# Altium footprint library Inductor_SMD.PcbLib: 587 footprints (part 22 of 37)
Each footprint in its own frame and in the unit in brackets; x right, y up, seen from the top. Pads: shape width x height; smd on the part's side, far side on the other; paste and mask are expansions set on the pad; w line width, h text height; cw(c..) or ccw(c..) is an arc to the next point about the centre after c.
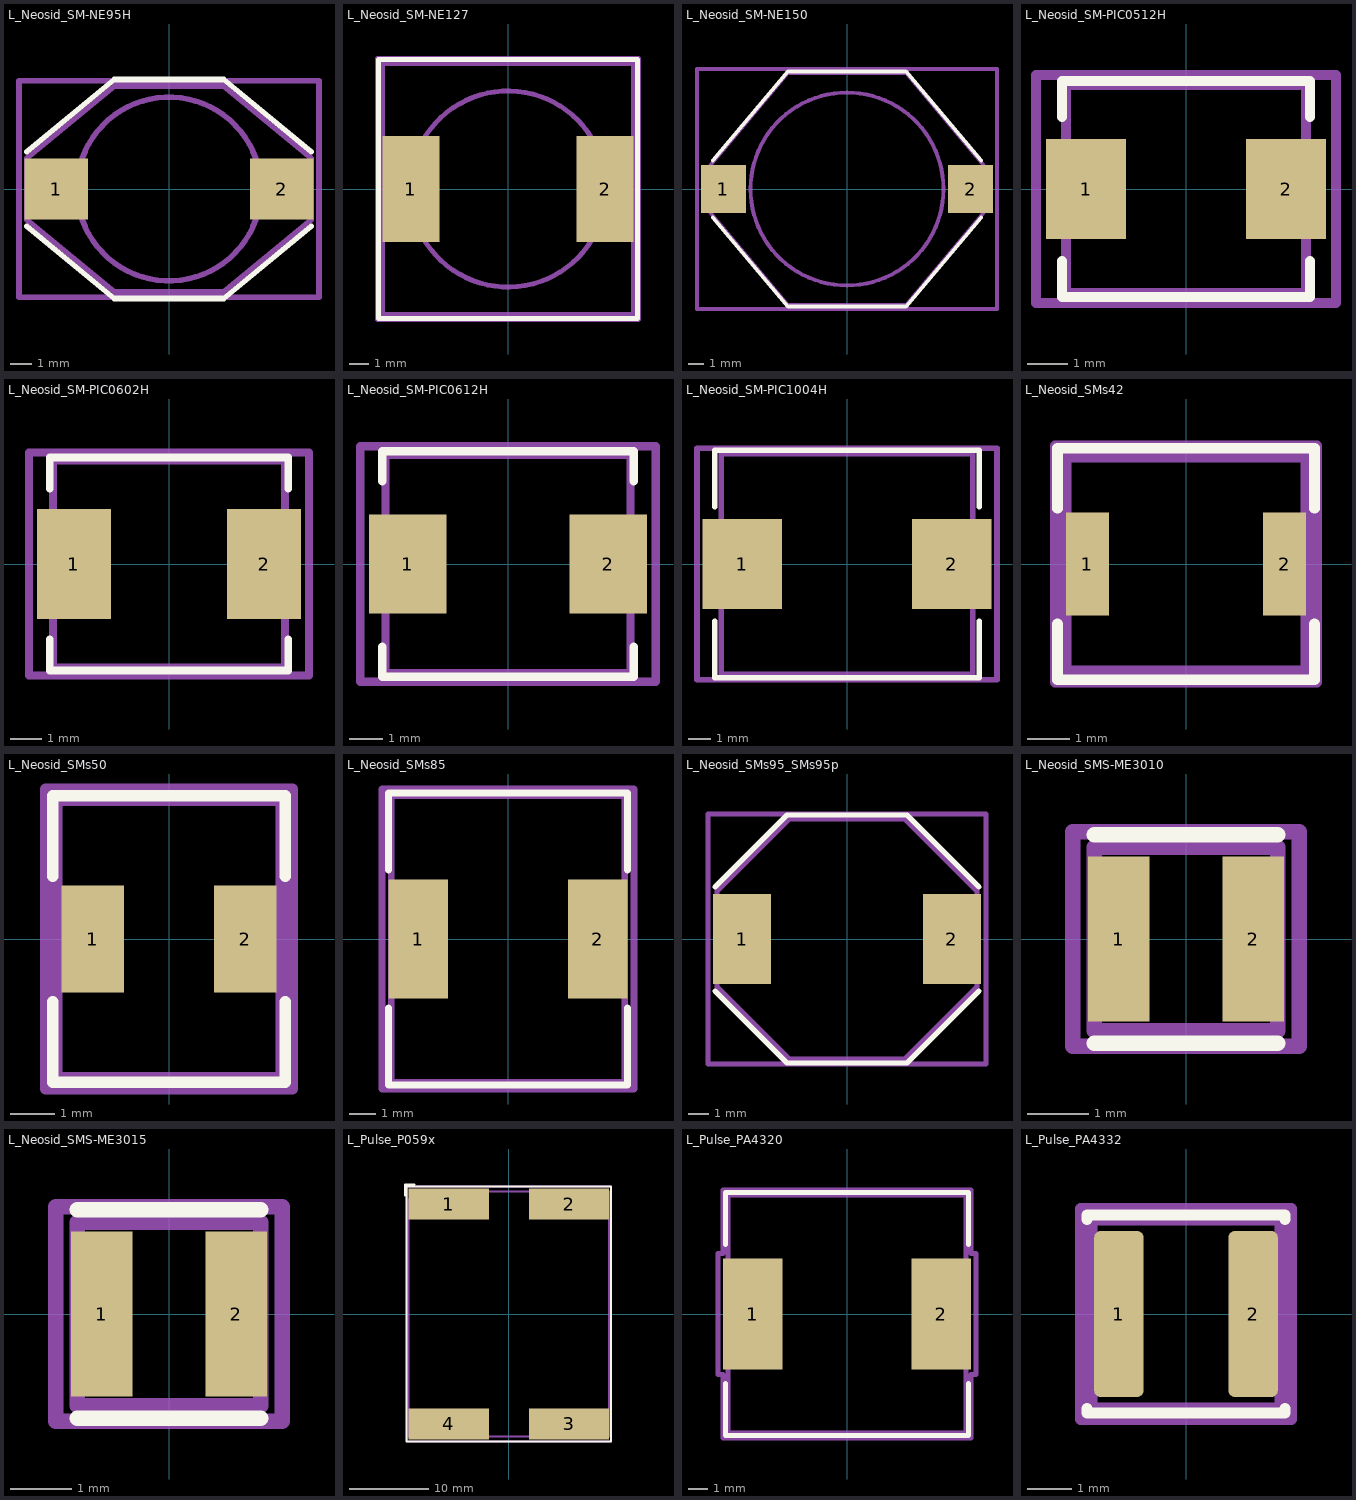
[diagram p21: the footprints below, top view; thin cyan lines are the x and y axes]

## L_Neosid_SM-NE95H [mm] "L_Neosid_SM-NE95H"
pads (2):
  rect 2.9x2.8 smd: 1(-5.15,0) 2(5.15,0)
F.SilkS:
  lines w0.254: -6.5,-1.7 -2.5,-5 2.5,-5 6.5,-1.7 ; -6.5,1.7 -2.5,5 2.5,5 6.5,1.7
Top Assembly:
  circle w0.254: c0,0 r4.2
  lines w0.254: -6.5,-1.4 -2.5,-4.7 2.5,-4.7 6.5,-1.4 6.5,1.4 2.5,4.7 -2.5,4.7 -6.5,1.4 -6.5,-1.4
  text "'.Designator'" at -4.047,-0.84 h1
Top Courtyard:
  lines w0.254: -6.85,-4.95 6.85,-4.95 6.85,4.95 -6.85,4.95 -6.85,-4.95
Top Designator:
  text ".Designator" at -7.618,-0.508 h1.52

## L_Neosid_SM-NE127 [mm] "L_Neosid_SM-NE127"
pads (2):
  rect 2.9x5.4 smd: 1(-4.95,0) 2(4.95,0)
F.SilkS:
  lines w0.254: -6.6,-6.6 6.6,-6.6 6.6,6.6 -6.6,6.6 -6.6,-6.6
Top Assembly:
  circle w0.254: c0,0 r5
  lines w0.254: -6.4,-6.4 6.4,-6.4 6.4,6.4 -6.4,6.4 -6.4,-6.4
  text "'.Designator'" at -4.047,-0.84 h1
Top Courtyard:
  lines w0.254: -6.65,-6.65 6.65,-6.65 6.65,6.65 -6.65,6.65 -6.65,-6.65
Top Designator:
  text ".Designator" at -7.618,-0.508 h1.52

## L_Neosid_SM-NE150 [mm] "L_Neosid_SM-NE150"
pads (2):
  rect 3x3.2 smd: 1(-8.2,0) 2(8.2,0)
F.SilkS:
  lines w0.254: -8.9,-1.9 -3.9,-7.8 3.9,-7.8 8.9,-1.9 ; -8.9,1.9 -3.9,7.8 3.9,7.8 8.9,1.9
Top Assembly:
  circle w0.254: c0,0 r6.4
  lines w0.254: -9.3,-1.3 -3.9,-7.7 3.9,-7.7 9.3,-1.3 9.3,1.3 3.9,7.7 -3.9,7.7 -9.3,1.3 -9.3,-1.3
  text "'.Designator'" at -4.047,-0.84 h1
Top Courtyard:
  lines w0.254: -9.95,-7.95 9.95,-7.95 9.95,7.95 -9.95,7.95 -9.95,-7.95
Top Designator:
  text ".Designator" at -7.618,-0.508 h1.52

## L_Neosid_SM-PIC0512H [mm] "L_Neosid_SM-PIC0512H"
pads (2):
  rect 2x2.5 smd: 1(-2.5,0) 2(2.5,0)
F.SilkS:
  lines w0.254: -3.1,-1.8 -3.1,-2.7 3.1,-2.7 3.1,-1.8 ; -3.1,1.8 -3.1,2.7 3.1,2.7 3.1,1.8
Top Assembly:
  lines w0.254: -3,-2.6 3,-2.6 3,2.6 -3,2.6 -3,-2.6
  text "'.Designator'" at -4.047,-0.84 h1
Top Courtyard:
  lines w0.254: -3.75,-2.85 3.75,-2.85 3.75,2.85 -3.75,2.85 -3.75,-2.85
Top Designator:
  text ".Designator" at -7.768,-0.508 h1.52

## L_Neosid_SM-PIC0602H [mm] "L_Neosid_SM-PIC0602H"
pads (2):
  rect 2.35x3.5 smd: 1(-3.03,0) 2(3.03,0)
F.SilkS:
  lines w0.254: -3.8,-3.4 3.8,-3.4 ; -3.8,-3.3 -3.8,-2.4 ; -3.8,2.4 -3.8,3.3 ; -3.8,3.4 3.8,3.4 ; 3.8,-3.3 3.8,-2.4 ; 3.8,2.4 3.8,3.3
Top Assembly:
  lines w0.254: -3.7,-3.3 3.7,-3.3 3.7,3.3 -3.7,3.3 -3.7,-3.3
  text "'.Designator'" at -4.047,-0.84 h1
Top Courtyard:
  lines w0.254: -4.46,-3.55 4.46,-3.55 4.46,3.55 -4.46,3.55 -4.46,-3.55
Top Designator:
  text ".Designator" at -7.618,-0.508 h1.52

## L_Neosid_SM-PIC0612H [mm] "L_Neosid_SM-PIC0612H"
pads (2):
  rect 2.35x3 smd: 1(-3.03,0) 2(3.03,0)
F.SilkS:
  lines w0.254: -3.8,-2.5 -3.8,-3.4 3.8,-3.4 3.8,-2.5 ; -3.8,2.5 -3.8,3.4 3.8,3.4 3.8,2.5
Top Assembly:
  lines w0.254: -3.7,-3.3 -3.7,3.3 3.7,3.3 3.7,-3.3 -3.7,-3.3
  text "'.Designator'" at -4.047,-0.84 h1
Top Courtyard:
  lines w0.254: -4.46,-3.55 -4.46,3.55 4.46,3.55 4.46,-3.55 -4.46,-3.55
Top Designator:
  text ".Designator" at -7.618,-0.508 h1.52

## L_Neosid_SM-PIC1004H [mm] "L_Neosid_SM-PIC1004H"
pads (2):
  rect 3.6x4.1 smd: 1(-4.75,0) 2(4.75,0)
F.SilkS:
  lines w0.254: -6,-2.6 -6,-5.15 6,-5.15 6,-2.6 ; -6,2.6 -6,5.15 6,5.15 6,2.6
Top Assembly:
  lines w0.254: -5.7,-5 -5.7,5 5.7,5 5.7,-5 -5.7,-5
  text "'.Designator'" at -4.047,-0.84 h1
Top Courtyard:
  lines w0.254: -6.8,-5.25 -6.8,5.25 6.8,5.25 6.8,-5.25 -6.8,-5.25
Top Designator:
  text ".Designator" at -7.618,-0.508 h1.52

## L_Neosid_SMs42 [mm] "L_Neosid_SMs42"
pads (2):
  rect 1x2.4 smd: 1(-2.3,0) 2(2.3,0)
F.SilkS:
  lines w0.254: -3,-1.4 -3,-2.7 3,-2.7 3,-1.4 ; -3,1.3 -3,2.7 3,2.7 3,1.3
Top Assembly:
  lines w0.254: -2.8,-2.5 -2.8,2.5 2.8,2.5 2.8,-2.5 -2.8,-2.5
  text "'.Designator'" at -4.047,-0.84 h1
Top Courtyard:
  lines w0.254: -3.05,-2.75 -3.05,2.75 3.05,2.75 3.05,-2.75 -3.05,-2.75
Top Designator:
  text ".Designator" at -7.768,-0.508 h1.52

## L_Neosid_SMs50 [mm] "L_Neosid_SMs50"
pads (2):
  rect 1.4x2.4 smd: 1(-1.7,0) 2(1.7,0)
F.SilkS:
  lines w0.254: -2.6,-1.4 -2.6,-3.2 2.6,-3.2 2.6,-1.4 ; -2.6,1.4 -2.6,3.2 2.6,3.2 2.6,1.4
Top Assembly:
  lines w0.254: -2.5,-3.1 -2.5,3.1 2.5,3.1 2.5,-3.1 -2.5,-3.1
  text "'.Designator'" at -4.047,-0.84 h1
Top Courtyard:
  lines w0.254: -2.75,-3.35 -2.75,3.35 2.75,3.35 2.75,-3.35 -2.75,-3.35
Top Designator:
  text ".Designator" at -7.768,-0.508 h1.52

## L_Neosid_SMs85 [mm] "L_Neosid_SMs85"
pads (2):
  rect 2.25x4.5 smd: 1(-3.38,0) 2(3.38,0)
F.SilkS:
  lines w0.254: -4.5,-2.6 -4.5,-5.5 4.5,-5.5 4.5,-2.6 ; -4.5,2.6 -4.5,5.5 4.5,5.5 4.5,2.6
Top Assembly:
  lines w0.254: -4.4,-5.4 -4.4,5.4 4.4,5.4 4.4,-5.4 -4.4,-5.4
  text "'.Designator'" at -4.047,-0.84 h1
Top Courtyard:
  lines w0.254: -4.75,-5.65 -4.75,5.65 4.75,5.65 4.75,-5.65 -4.75,-5.65
Top Designator:
  text ".Designator" at -7.618,-0.508 h1.52

## L_Neosid_SMs95_SMs95p [mm] "L_Neosid_SMs95_SMs95p"
pads (2):
  rect 2.9x4.5 smd: 1(-5.25,0) 2(5.25,0)
F.SilkS:
  lines w0.254: -6.6,-2.6 -3,-6.2 3,-6.2 6.6,-2.6 ; -6.6,2.6 -3,6.2 3,6.2 6.6,2.6
Top Assembly:
  lines w0.254: -6.5,-2.4 -6.5,2.4 -2.9,6 2.9,6 6.5,2.4 6.5,-2.4 2.9,-6 -2.9,-6 -6.5,-2.4
  text "'.Designator'" at -4.047,-0.84 h1
Top Courtyard:
  lines w0.254: -6.95,-6.25 -6.95,6.25 6.95,6.25 6.95,-6.25 -6.95,-6.25
Top Designator:
  text ".Designator" at -7.618,-0.508 h1.52

## L_Neosid_SMS-ME3010 [mm] "L_Neosid_SMS-ME3010"
pads (2):
  rect 1x2.7 smd: 1(-1.1,0) 2(1.1,0)
F.SilkS:
  lines w0.254: -1.5,-1.7 1.5,-1.7 ; -1.5,1.7 1.5,1.7
Top Assembly:
  lines w0.254: -1.5,-1.5 -1.5,1.5 1.5,1.5 1.5,-1.5 -1.5,-1.5
  text "'.Designator'" at -2.833,-0.588 h0.7
Top Courtyard:
  lines w0.254: -1.85,-1.75 -1.85,1.75 1.85,1.75 1.85,-1.75 -1.85,-1.75
Top Designator:
  text ".Designator" at -7.723,-0.508 h1.52

## L_Neosid_SMS-ME3015 [mm] "L_Neosid_SMS-ME3015"
pads (2):
  rect 1x2.7 smd: 1(-1.1,0) 2(1.1,0)
F.SilkS:
  lines w0.254: -1.5,-1.7 1.5,-1.7 ; -1.5,1.7 1.5,1.7
Top Assembly:
  lines w0.254: -1.5,-1.5 -1.5,1.5 1.5,1.5 1.5,-1.5 -1.5,-1.5
  text "'.Designator'" at -2.833,-0.588 h0.7
Top Courtyard:
  lines w0.254: -1.85,-1.75 -1.85,1.75 1.85,1.75 1.85,-1.75 -1.85,-1.75
Top Designator:
  text ".Designator" at -7.723,-0.508 h1.52

## L_Pulse_P059x [mm] "L_Pulse_P059x"
pads (4):
  rect 10.16x3.94 smd: 1(-7.62,13.93) 2(7.62,13.93) 3(7.62,-13.93) 4(-7.62,-13.93)
F.SilkS:
  lines w0.254: -13.2,15 -13.2,16.4 -12,16.4 ; -12.96,-16.16 12.96,-16.16 12.96,16.16 -12.96,16.16 -12.96,-16.16
Top Assembly:
  lines w0.254: -12.7,-15.495 12.7,-15.495 12.7,15.495 -11.7,15.5 -12.7,14.5 -12.7,-15.495
  text "'.Designator'" at -4.047,-0.84 h1
Top Courtyard:
  lines w0.254: -12.95,-16.15 12.95,-16.15 12.95,16.15 -12.95,16.15 -12.95,-16.15
Top Designator:
  text ".Designator" at -7.738,-0.388 h1.52

## L_Pulse_PA4320 [mm] "L_Pulse_PA4320"
pads (2):
  rect 3x5.6 smd: 1(-4.75,0) 2(4.75,0)
F.SilkS:
  lines w0.254: -6.12,-3.5 -6.12,-6.12 6.12,-6.12 6.12,-3.5 ; -6.12,3.5 -6.12,6.12 6.12,6.12 6.12,3.5
Top Assembly:
  lines w0.254: -6,-6 -6,6 6,6 6,-6 -6,-6
  text "'.Designator'" at -4.047,-0.84 h1
Top Courtyard:
  lines w0.254: -6.5,-3.04 -6.5,3.05 -6.25,3.05 -6.25,6.25 6.25,6.25 6.25,3.05 6.5,3.05 6.5,-3.05 6.25,-3.05 6.25,-6.25 -6.25,-6.25 -6.25,-3.04 -6.5,-3.04
Top Designator:
  text ".Designator" at -7.618,-0.508 h1.52
3D body "L_Pulse_PA4320.step": height 10.2, standoff 0, extent -6,-6 6,6

## L_Pulse_PA4332 [mm] "L_Pulse_PA4332"
pads (2):
  rrect23% 1.1x3.7 smd: 1(-1.5,0) 2(1.5,0)
F.SilkS:
  lines w0.254: -2.21,-2.11 -2.21,-2.21 2.21,-2.21 2.21,-2.11 ; -2.21,2.11 -2.21,2.21 2.21,2.21 2.21,2.11
Top Assembly:
  lines w0.254: -2.1,-2.1 2.1,-2.1 2.1,2.1 -2.1,2.1 -2.1,-2.1
  text "'.Designator'" at -4.047,-0.84 h1
Top Courtyard:
  lines w0.254: -2.35,-2.35 2.35,-2.35 2.35,2.35 -2.35,2.35 -2.35,-2.35
Top Designator:
  text ".Designator" at -7.768,-0.508 h1.52
3D body "L_Pulse_PA4332.step": height 2, standoff 0, extent -2.1,-2.1 2.1,2.1